# Altium footprint library M3-TH.PcbLib: 1 footprints
Each footprint in its own frame and in the unit in brackets; x right, y up, seen from the top. Pads: shape width x height; smd on the part's side, far side on the other; paste and mask are expansions set on the pad; w line width, h text height; cw(c..) or ccw(c..) is an arc to the next point about the centre after c.
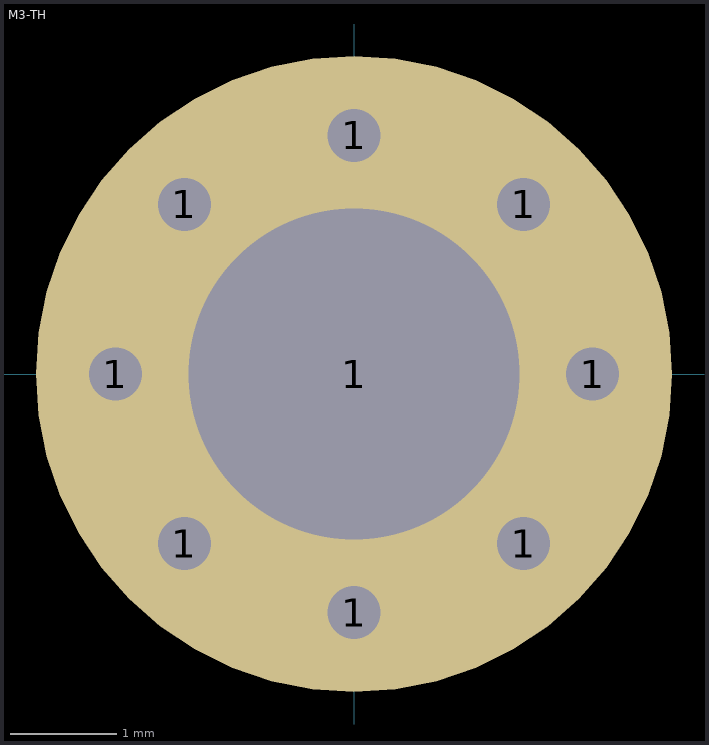
[diagram p0: the footprint, top view; thin cyan lines are the x and y axes]

## M3-TH [mm]
pads (9):
  round 1 hole 0.5: 1(-2.25,0) 1(-1.6,-1.6) 1(-1.6,1.6) 1(0,-2.25) 1(0,2.25) 1(1.6,-1.6) 1(1.6,1.6) 1(2.25,0)
  round 6 hole 3.125: 1(0,0)